# Altium footprint library EverLight Infrared Remote Control Receiver Module.PcbLib: 1 footprints
Each footprint in its own frame and in the unit in brackets; x right, y up, seen from the top. Pads: shape width x height; smd on the part's side, far side on the other; paste and mask are expansions set on the pad; w line width, h text height; cw(c..) or ccw(c..) is an arc to the next point about the centre after c.
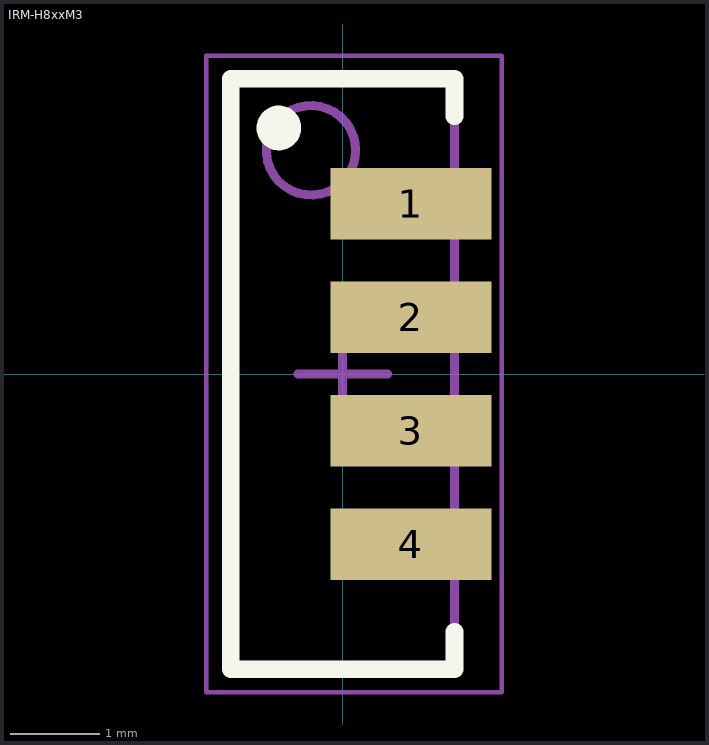
[diagram p0: the footprint, top view; thin cyan lines are the x and y axes]

## IRM-H8xxM3 [mm] "IRM-H8xxM3"
height 3
pads (4):
  rect 1.8x0.8 smd: 1(0.762,1.905) 2(0.762,0.635) 3(0.762,-0.635) 4(0.762,-1.905)
Top Overlay:
  circle w0.25: c-0.713,2.75 r0.125
  lines w0.2: 1.249,-2.881 1.249,-3.3 -1.251,-3.3 -1.251,3.3 1.249,3.3 1.249,2.881
Mechanical 13:
  circle w0.1: c-0.354,2.5 r0.5
  lines w0.1: -1.251,-3.3 -1.251,3.3 1.249,3.3 1.249,-3.3 -1.251,-3.3
Mechanical 15:
  lines w0.05: -1.524,-3.556 1.778,-3.556 1.778,3.556 -1.524,3.556 -1.524,-3.556
  lines w0.1: -0.501,0 0.499,0 ; -0.001,-0.5 -0.001,0.5
3D body: height 1.75, standoff 0.25, extent -1.251,-3.3 1.249,3.3